# Altium footprint library aistlab.PcbLib: 29 footprints (part 2 of 2)
Each footprint in its own frame and in the unit in brackets; x right, y up, seen from the top. Pads: shape width x height; smd on the part's side, far side on the other; paste and mask are expansions set on the pad; w line width, h text height; cw(c..) or ccw(c..) is an arc to the next point about the centre after c.
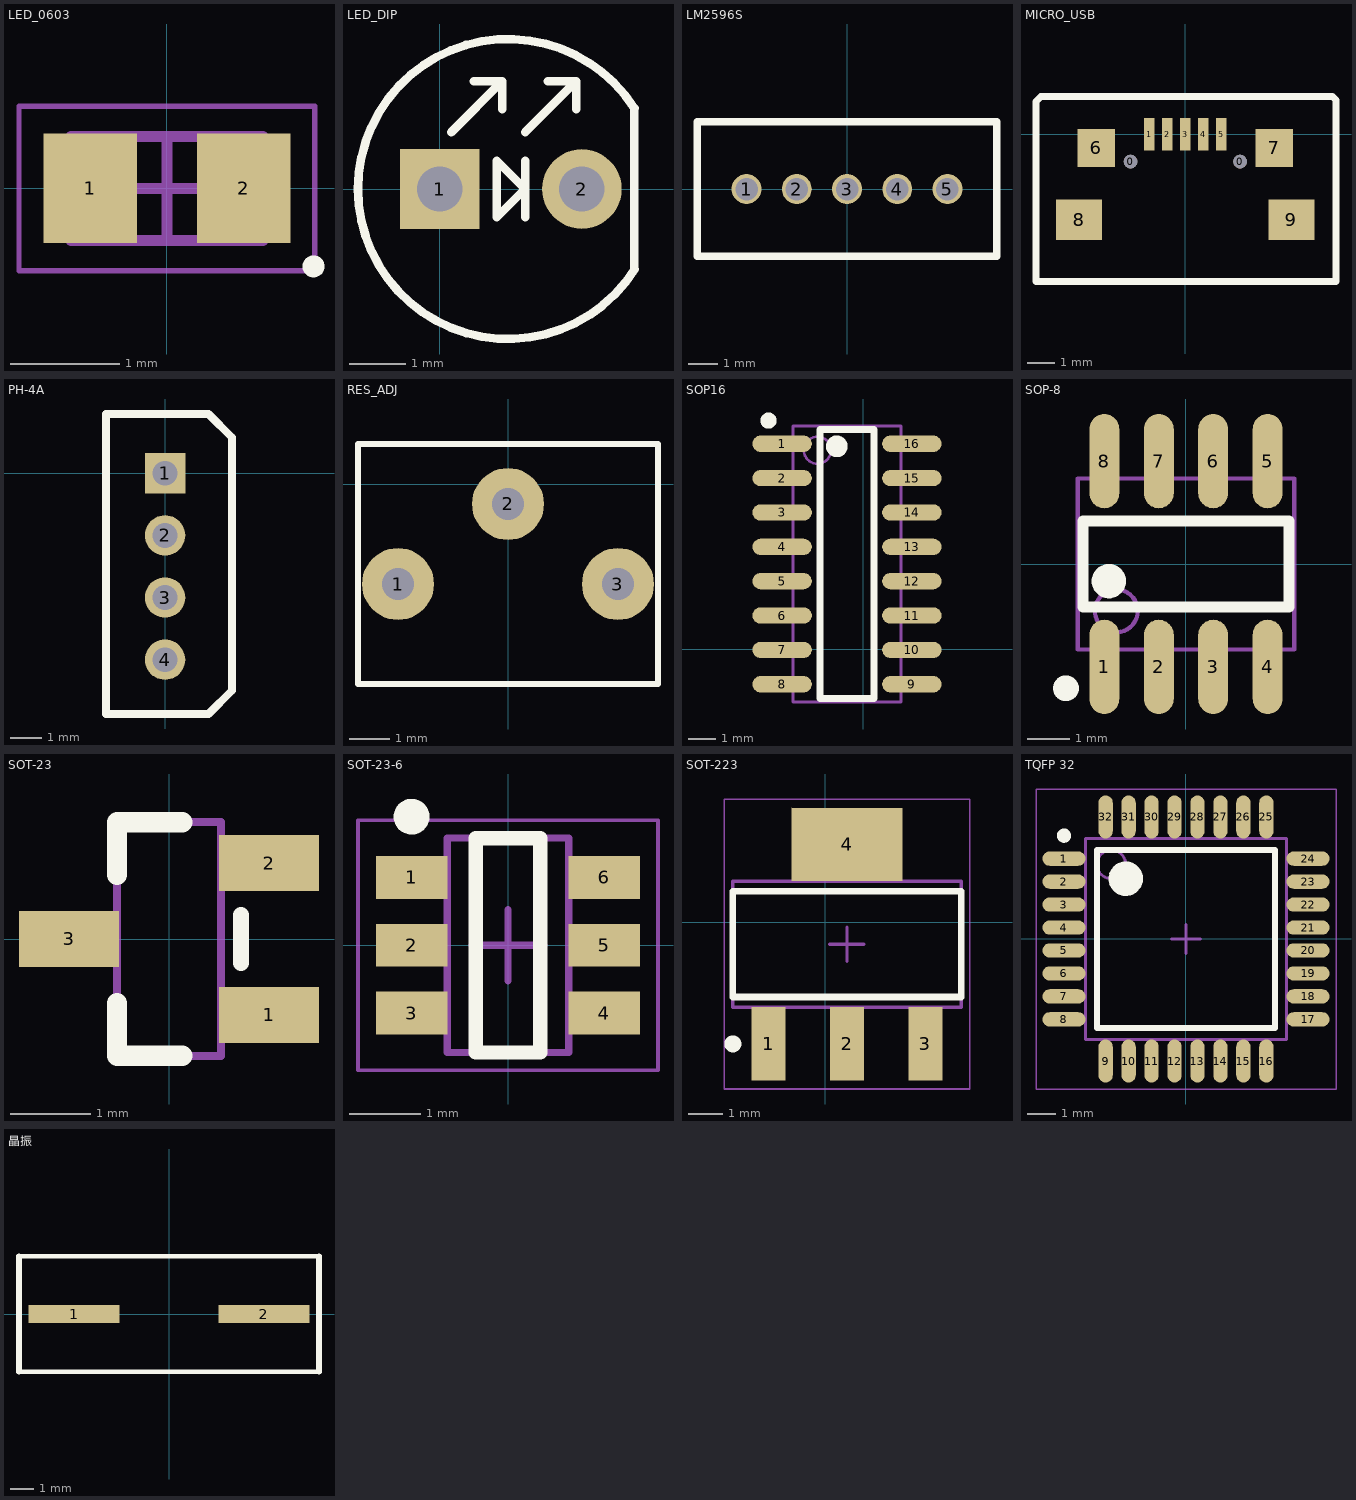
[diagram p1: the footprints below, top view; thin cyan lines are the x and y axes]

## LED_0603 [mm] "Chip Diode, 2-Leads, Body 1.60x0.80mm, IPC Medium Density"
height 0.6
pads (2):
  rect 0.85x1 smd: 1(-0.7,0) 2(0.7,0)
Top Overlay:
  circle w0.1: c1.337,-0.712 r0.05
Mechanical 13:
  lines w0.1: -0.875,-0.475 -0.875,0.475 0.875,0.475 0.875,-0.475 -0.875,-0.475
Mechanical 15:
  lines w0.05: -1.35,-0.75 -1.35,0.75 1.35,0.75 1.35,-0.75 -1.35,-0.75
  lines w0.1: -0.475,0 0.475,0 ; 0,-0.475 0,0.475
3D body "DIOC1608X06N.step": height 0.6, standoff 0, extent -0.875,-0.475 0.875,0.475

## LED_DIP [mm]
pads (2):
  rect 1.4x1.4 hole 0.8: 1(0,0)
  round 1.4 hole 0.8: 2(2.5,0)
Top Overlay:
  lines w0.15: 0.2,1 1.1,1.9 ; 0.6,1.9 1.1,1.9 ; 1.1,1.4 1.1,1.9 ; 1.5,-0.5 1.5,0.5 ; 1.5,1 2.4,1.9 ; 1.9,1.9 2.4,1.9 ; 2.4,1.4 2.4,1.9 ; 3.425,-1.422 3.425,1.419 ; 3.427,1.419 ccw(c1.2,0) 3.429,-1.415 ; 1,-0.5 1.5,0 1,0.5 1,-0.5
3D body "LED5_BLUE.STEP": height 8.6, standoff -2, extent -1.707,-2.723 3.643,2.977

## LM2596S [mil] "3.3v"
pads (5):
  round 40 hole 30: 1(-134,0) 2(-67,0) 3(0,0) 4(67,0) 5(134,0)
Top Overlay:
  lines w10: -200,-90 200,-90 200,90 -200,90 -200,-90

## MICRO_USB [mm]
height 3
pads (11):
  round 0.5 hole 0.5: 0(-2.032,-1.016) 0(2.032,-1.016)
  rect 0.4x1.2 smd: 1(-1.333,0) 2(-0.667,0) 3(0,0) 4(0.667,0) 5(1.333,0)
  rect 1.4x1.4 smd: 6(-3.302,-0.508) 7(3.302,-0.508)
  rect 1.7x1.5 smd: 8(-3.937,-3.175) 9(3.937,-3.175)
Top Overlay:
  lines w0.254: -5.537,-5.461 -5.537,1.219 -5.359,1.397 -5.334,1.397 -4.318,1.397 5.461,1.397 5.588,1.27 5.588,-5.461 4.318,-5.461 -5.537,-5.461
3D body "48284.stp": height 2.71, standoff -0.23, extent -4.4,-5.715 4.4,0.016

## PH-4A [mm]
pads (4):
  rect 1.3x1.3 hole 0.8: 1(0,0)
  round 1.3 hole 0.8: 2(0,-2) 3(0,-4) 4(0,-6)
Top Overlay:
  lines w0.254: -1.905,-7.747 -1.905,1.905 1.397,1.905 2.159,1.143 2.159,-6.985 1.397,-7.747 -1.905,-7.747

## RES_ADJ [mm]
pads (3):
  round 1.8 hole 0.8: 1(-2.75,-2.5) 2(0,-0.5) 3(2.75,-2.5)
Top Overlay:
  lines w0.15: -3.75,-5 3.75,-5 3.75,1 -3.75,1 -3.75,-5

## SOP16 [mm] "CH340G"
height 3
pads (16):
  oval 2.2x0.6 smd: 1(-3,7.595) 2(-3,6.325) 3(-3,5.055) 4(-3,3.785) 5(-3,2.515) 6(-3,1.245) 7(-3,-0.025) 8(-3,-1.295) 9(1.8,-1.295) 10(1.8,-0.025) 11(1.8,1.245) 12(1.8,2.515) 13(1.8,3.785) 14(1.8,5.055) 15(1.8,6.325) 16(1.8,7.595)
Top Overlay:
  circle w0.3: c-3.5,8.45 r0.15
  circle w0.4: c-0.975,7.5 r0.2
  lines w0.254: -1.6,-1.825 -1.6,8.125 0.4,8.125 0.4,-1.825 -1.6,-1.825
Mechanical 13:
  circle w0.1: c-1.695,7.355 r0.5
  lines w0.1: -2.595,-1.955 -2.595,8.255 1.395,8.255 1.395,-1.955 -2.595,-1.955
3D body "User Library-SOIC-16-3.step": height 1.7, standoff 0, extent -3.683,-1.778 2.515,8.128

## SOP-8 [mm] "TC4056A 充电芯片"
pads (8):
  oval 0.7x2.2 smd: 1(-1.905,-2.4) 2(-0.635,-2.4) 3(0.635,-2.4) 4(1.905,-2.4) 5(1.905,2.4) 6(0.635,2.4) 7(-0.635,2.4) 8(-1.905,2.4)
Top Overlay:
  circle w0.4: c-1.8,-0.4 r0.2
  circle w0.3: c-2.8,-2.9 r0.15
  lines w0.254: -2.4,-1 -2.4,1 2.4,1 2.4,-1 -2.4,-1
Mechanical 13:
  circle w0.1: c-1.625,-1.095 r0.5
  lines w0.1: -2.525,-1.995 -2.525,1.995 2.525,1.995 2.525,-1.995 -2.525,-1.995
3D body "User Library-SOIC-8-150.STEP": height 1.75, standoff 0, extent -2.5,-3.1 2.5,3.1

## SOT-23 [mm]
pads (3):
  rect 1.25x0.7 smd: 1(1.25,-0.95) 2(1.25,0.95) 3(-1.25,0)
Top Overlay:
  lines w0.2: 0.9,-0.3 0.9,0.3
  lines w0.254: -0.65,-0.8 -0.65,-1.46 0.165,-1.46 ; 0.165,1.46 -0.65,1.46 ; -0.65,0.8 -0.65,1.46 ; -0.65,0.8 -0.65,1.46 ; -0.65,0.8 -0.65,1.46
Mechanical 13:
  lines w0.1: -0.65,-1.46 -0.65,1.46 ; -0.65,-1.46 0.65,-1.46 ; -0.65,-1.46 0.65,-1.46 ; -0.65,-1.46 -0.65,1.46 ; -0.65,-1.46 0.65,-1.46 ; -0.65,-1.46 -0.65,1.46 ; -0.65,1.46 0.65,1.46 ; -0.65,1.46 0.65,1.46 ; -0.65,1.46 0.65,1.46 ; 0.65,-1.46 0.65,1.46 ; 0.65,-1.46 0.65,1.46 ; 0.65,-1.46 0.65,1.46
3D body "SOT-23.step": height 1.3, standoff 0, extent -1.5,-1.5 1.5,1.5

## SOT-23-6 [mm] "SX1308"
height 1.1
pads (6):
  rect 1x0.6 smd: 1(-1.35,0.95) 2(-1.35,0) 3(-1.35,-0.95) 4(1.35,-0.95) 5(1.35,0) 6(1.35,0.95)
Top Overlay:
  circle w0.25: c-1.35,1.8 r0.125
  lines w0.2: -0.45,-1.5 0.45,-1.5 0.45,1.5 -0.45,1.5 -0.45,-1.5
Mechanical 13:
  lines w0.1: -0.85,-1.5 -0.85,1.5 0.85,1.5 0.85,-1.5 -0.85,-1.5
Mechanical 15:
  lines w0.05: -2.1,-1.75 -2.1,1.75 2.1,1.75 2.1,-1.75 -2.1,-1.75
  lines w0.1: -0.5,0 0.5,0 ; 0,-0.5 0,0.5
3D body: height 1.1, standoff 0.05, extent -0.85,-1.5 0.85,1.5

## SOT-223 [mm] "ASM1117,"
height 1.8
pads (4):
  rect 1x2.15 smd: 1(-1.665,-3.56) 2(0.635,-3.56) 3(2.935,-3.56)
  rect 3.25x2.15 smd: 4(0.635,2.29)
Top Overlay:
  circle w0.25: c-2.715,-3.56 r0.125
  lines w0.2: -2.715,-2.185 -2.715,0.915 3.985,0.915 3.985,-2.185 -2.715,-2.185
Mechanical 13:
  lines w0.1: -2.715,-2.485 -2.715,1.215 3.985,1.215 3.985,-2.485 -2.715,-2.485
Mechanical 15:
  lines w0.05: -2.965,-4.885 -2.965,3.615 4.235,3.615 4.235,-4.885 -2.965,-4.885
  lines w0.1: 0.135,-0.635 1.135,-0.635 ; 0.635,-1.135 0.635,-0.135
3D body "User Library-SOT233.step": height 1.7, standoff 0, extent -2.715,-4.285 3.985,3.015

## TQFP 32 [mm] "ATMEL 328P"
height 1.2
pads (32):
  oval 1.5x0.5 smd: 1(-4.25,2.8) 2(-4.25,2) 3(-4.25,1.2) 4(-4.25,0.4) 5(-4.25,-0.4) 6(-4.25,-1.2) 7(-4.25,-2) 8(-4.25,-2.8) 17(4.25,-2.8) 18(4.25,-2) 19(4.25,-1.2) 20(4.25,-0.4) 21(4.25,0.4) 22(4.25,1.2) 23(4.25,2) 24(4.25,2.8)
  oval 0.5x1.5 smd: 9(-2.8,-4.25) 10(-2,-4.25) 11(-1.2,-4.25) 12(-0.4,-4.25) 13(0.4,-4.25) 14(1.2,-4.25) 15(2,-4.25) 16(2.8,-4.25) 25(2.8,4.25) 26(2,4.25) 27(1.2,4.25) 28(0.4,4.25) 29(-0.4,4.25) 30(-1.2,4.25) 31(-2,4.25) 32(-2.8,4.25)
Top Overlay:
  circle w0.25: c-4.25,3.6 r0.125
  circle w0.6: c-2.1,2.1 r0.3
  lines w0.2: -3.1,-3.1 -3.1,3.1 3.1,3.1 3.1,-3.1 -3.1,-3.1
Mechanical 13:
  circle w0.1: c-2.6,2.6 r0.5
  lines w0.1: -3.5,-3.5 -3.5,3.5 3.5,3.5 3.5,-3.5 -3.5,-3.5
Mechanical 15:
  lines w0.05: -5.225,-5.225 -5.225,5.225 5.225,5.225 5.225,-5.225 -5.225,-5.225
  lines w0.1: -0.5,0 0.5,0 ; 0,-0.5 0,0.5
3D body "User Library-LQFP32-2.STEP": height 1.62, standoff -0.01, extent -4.572,-4.572 4.572,4.572

## 晶振 [mm]
pads (2):
  rect 3.95x0.8 smd: 1(-4.115,0) 2(4.115,0)
Top Overlay:
  lines w0.2: -6.5,-2.5 6.5,-2.5 ; -6.5,2.5 6.5,2.5
  lines w0.254: -6.5,-2.5 -6.5,2.5 ; 6.5,-2.5 6.5,2.5